# Altium footprint library ESCLib.PcbLib: 5 footprints
Each footprint in its own frame and in the unit in brackets; x right, y up, seen from the top. Pads: shape width x height; smd on the part's side, far side on the other; paste and mask are expansions set on the pad; w line width, h text height; cw(c..) or ccw(c..) is an arc to the next point about the centre after c.
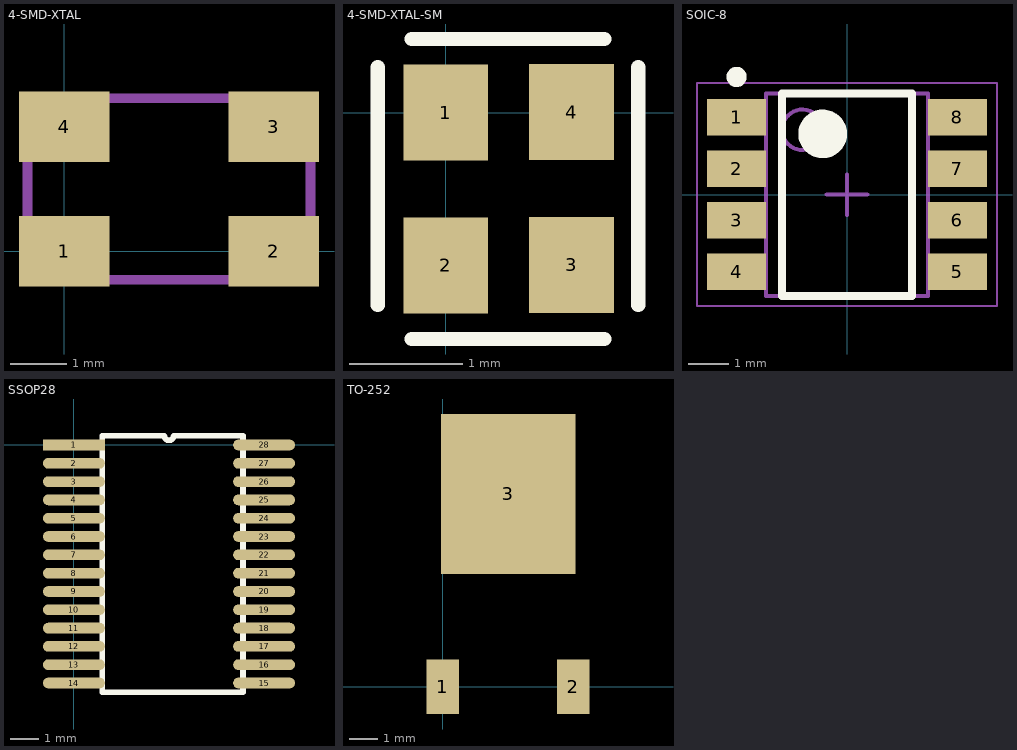
[diagram p0: the footprints below, top view; thin cyan lines are the x and y axes]

## 4-SMD-XTAL [mm]
pads (4):
  rect 1.6x1.25 smd: 1(0,0) 2(3.7,0) 3(3.7,2.2) 4(0,2.2)
Mechanical 1:
  lines w0.17: -0.65,-0.5 4.35,-0.5 4.35,2.7 -0.65,2.7 -0.65,-0.5

## 4-SMD-XTAL-SM [mm]
pads (4):
  rect 0.75x0.85 smd: 1(0,0) 2(0,-1.35) 3(1.112,-1.346) 4(1.112,0.004)
Top Overlay:
  lines w0.127: -0.6,-1.7 -0.6,0.4 ; -0.3,-2 1.4,-2 ; -0.3,0.65 1.4,0.65 ; 1.7,-1.7 1.7,0.4
3D body "User Library-TG-5006CJ.step": height 0.73, standoff 0, extent -0.25,-1.7 1.35,0.3

## SOIC-8 [mm] "SOIC, 8-Leads, Body 4.90x3.90mm, Pitch 1.27mm, IPC Medium Density"
height 1.75
pads (8):
  rect 1.45x0.9 smd: 1(-2.725,1.905) 2(-2.725,0.635) 3(-2.725,-0.635) 4(-2.725,-1.905) 5(2.725,-1.905) 6(2.725,-0.635) 7(2.725,0.635) 8(2.725,1.905)
Top Overlay:
  circle w0.6: c-0.6,1.5 r0.3
  circle w0.25: c-2.725,2.905 r0.125
  lines w0.2: -1.6,-2.5 1.6,-2.5 1.6,2.5 -1.6,2.5 -1.6,-2.5
Assembly Top:
  circle w0.1: c-1.1,1.6 r0.5
  lines w0.1: -2,-2.5 2,-2.5 2,2.5 -2,2.5 -2,-2.5
Courtyard Top:
  lines w0.05: -3.7,-2.75 3.7,-2.75 3.7,2.75 -3.7,2.75 -3.7,-2.75
  lines w0.1: -0.5,0 0.5,0 ; 0,-0.5 0,0.5
3D body "SOIC8SSSGDDDD.step": height 1.75, standoff 0, extent -3,-2.45 3,2.45

## SSOP28 [mm]
pads (28):
  rect 2.2x0.38 smd: 1(0,0)
  oval 2.2x0.38 smd: 2(0,-0.65) 3(0,-1.3) 4(0,-1.95) 5(0,-2.6) 6(0,-3.25) 7(0,-3.9) 8(0,-4.55) 9(0,-5.2) 10(0,-5.85) 11(0,-6.5) 12(0,-7.15) 13(0,-7.8) 14(0,-8.45) 15(6.75,-8.45) 16(6.75,-7.8) 17(6.75,-7.15) 18(6.75,-6.5) 19(6.75,-5.85) 20(6.75,-5.2) 21(6.75,-4.55) 22(6.75,-3.9) 23(6.75,-3.25) 24(6.75,-2.6) 25(6.75,-1.95) 26(6.75,-1.3) 27(6.75,-0.65) 28(6.75,0)
Top Overlay:
  lines w0.2: 1,-8.775 1,0.325 3.213,0.325 ccw(c3.375,0.325) 3.537,0.325 6,0.325 6,-8.775 1,-8.775

## TO-252 [mm]
pads (3):
  rect 1.14x1.9 smd: 1(0,0) 2(4.58,0)
  rect 4.7x5.6 smd: 3(2.3,6.75)
3D body "User Library-DPAK_TO-252AA.step": height 2.37, standoff -0.03, extent -1.134,-0.5 5.6,9.6